# Altium integrated library National Semiconductor Amplifier.IntLib: 1665 symbols (part 33 of 44)
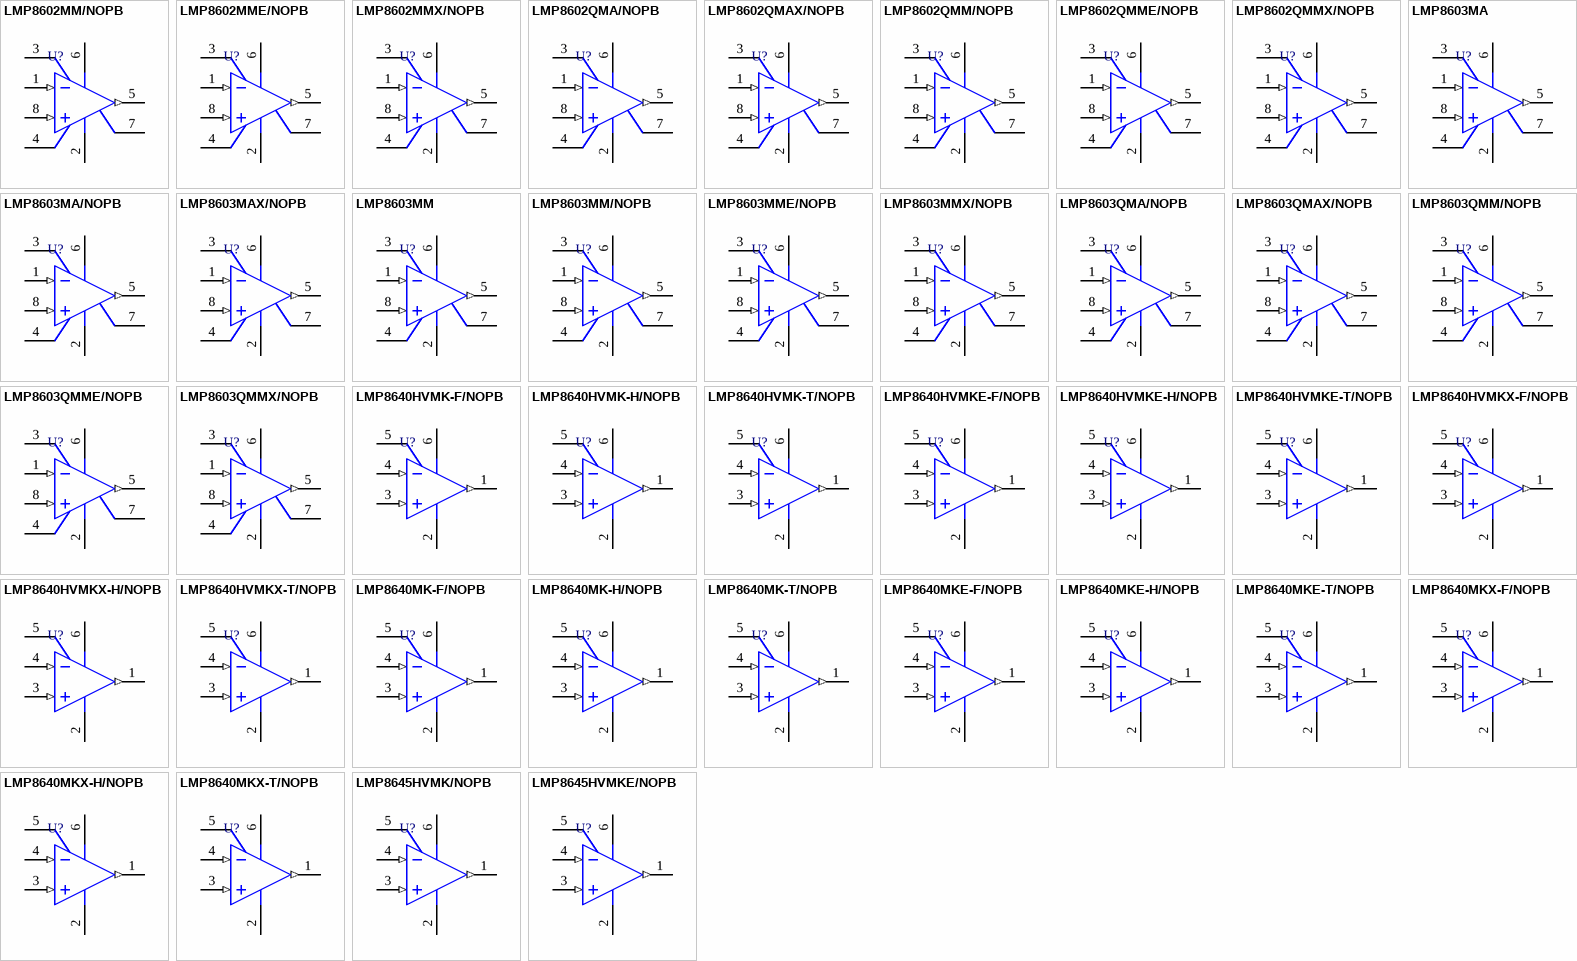
[diagram p116: symbols LMP8602MM/NOPB to LMP8645HVMKE/NOPB]

## LMP8602MMX/NOPB
designator U?
60V Common Mode, 50 x Gain, Bidirectional Precision Current Sensing Amplifier, 8-pin Mini SOIC, Pb-Free; PartNumber: LMP8602MMX/NOPB; Manufacturer: National Semiconductor; PackageTopMarking: ZXTT*AN3A; PowerWise: N; CompType: Amplifiers; High-Reliability: Y; DatasheetVersion: Apr-2011; PackageVersion: revF, Apr-2008; PackageReference: MUA08A; PackageDescription: MINI SOIC, .118 x .118 x .034in, 8 Lead, .0256in Pitch; RoHS: Y; PinCount: 8; Code_JEDEC: MO-187-AA; ComponentLink1Description: Manufacturer URL; ComponentLink1URL: http://www.national.com/; ComponentLink2Description: LMP8602 Datasheet; ComponentLink2URL: http://www.national.com/ds/LM/LMP8602.pdf; ComponentLink3Description: LMP8602 Web Page; ComponentLink3URL: http://www.national.com/pf/LM/LMP8602.html; ComponentLink4Description: MUA08A Package Page; ComponentLink4URL: http://www.national.com/packaging/folders/mua08a.html
footprint MUA08A_N (TSOP, 8-Leads, Body 3x3mm, Pitch 0.65mm, IPC Medium Density)
footprint MUA08A_L (TSOP, 8-Leads, Body 3x3mm, Pitch 0.65mm, IPC High Density)
footprint MUA08A_M (TSOP, 8-Leads, Body 3x3mm, Pitch 0.65mm, IPC Low Density)
pins: 1 IN- (in), 2 GND (power), 3 A1, 4 A2, 5 OUT (out), 6 VS (power), 7 OFS, 8 IN+ (in)

## LMP8602QMA/NOPB
designator U?
60V Common Mode, 50 x Gain, Bidirectional Precision Current Sensing Amplifier, 8 pin SOIC NARROW; PartNumber: LMP8602QMA/NOPB; Manufacturer: National Semiconductor; PackageTopMarking: NSZXTT*LMP86*02QMA; PowerWise: N; CompType: Amplifiers; High-Reliability: Y; DatasheetVersion: Apr-2011; PackageVersion: revM, May-2009; PackageReference: M08A; PackageDescription: SOIC Narrow, 4.9 x 3.9 x 1.45mm, 8 Lead, 1.27mm Pitch; RoHS: Y; PinCount: 8; Code_JEDEC: MS-012-AA; Code_IPC: SOIC127P600-8; ComponentLink1Description: Manufacturer URL; ComponentLink1URL: http://www.national.com/; ComponentLink2Description: LMP8602 Datasheet; ComponentLink2URL: http://www.national.com/ds/LM/LMP8602.pdf; ComponentLink3Description: LMP8602 Web Page; ComponentLink3URL: http://www.national.com/pf/LM/LMP8602.html; ComponentLink4Description: M08A Package Page; ComponentLink4URL: http://www.national.com/packaging/folders/m08a.html
footprint M08A_N (SOIC, 8-Leads, Body 4.9x3.9mm, Pitch 1.27mm, IPC Medium Density)
footprint M08A_L (SOIC, 8-Leads, Body 4.9x3.9mm, Pitch 1.27mm, IPC High Density)
footprint M08A_M (SOIC, 8-Leads, Body 4.9x3.9mm, Pitch 1.27mm, IPC Low Density)
pins: 1 IN- (in), 2 GND (power), 3 A1, 4 A2, 5 OUT (out), 6 VS (power), 7 OFS, 8 IN+ (in)

## LMP8602QMAX/NOPB
designator U?
60V Common Mode, 50 x Gain, Bidirectional Precision Current Sensing Amplifier, 8 pin SOIC NARROW; PartNumber: LMP8602QMAX/NOPB; Manufacturer: National Semiconductor; PackageTopMarking: NSZXTT*LMP86*02QMA; PowerWise: N; CompType: Amplifiers; High-Reliability: Y; DatasheetVersion: Apr-2011; PackageVersion: revM, May-2009; PackageReference: M08A; PackageDescription: SOIC Narrow, 4.9 x 3.9 x 1.45mm, 8 Lead, 1.27mm Pitch; RoHS: Y; PinCount: 8; Code_JEDEC: MS-012-AA; Code_IPC: SOIC127P600-8; ComponentLink1Description: Manufacturer URL; ComponentLink1URL: http://www.national.com/; ComponentLink2Description: LMP8602 Datasheet; ComponentLink2URL: http://www.national.com/ds/LM/LMP8602.pdf; ComponentLink3Description: LMP8602 Web Page; ComponentLink3URL: http://www.national.com/pf/LM/LMP8602.html; ComponentLink4Description: M08A Package Page; ComponentLink4URL: http://www.national.com/packaging/folders/m08a.html
footprint M08A_N (SOIC, 8-Leads, Body 4.9x3.9mm, Pitch 1.27mm, IPC Medium Density)
footprint M08A_L (SOIC, 8-Leads, Body 4.9x3.9mm, Pitch 1.27mm, IPC High Density)
footprint M08A_M (SOIC, 8-Leads, Body 4.9x3.9mm, Pitch 1.27mm, IPC Low Density)
pins: 1 IN- (in), 2 GND (power), 3 A1, 4 A2, 5 OUT (out), 6 VS (power), 7 OFS, 8 IN+ (in)

## LMP8602QMM/NOPB
designator U?
60V Common Mode, 50 x Gain, Bidirectional Precision Current Sensing Amplifier, AECQ 1, 8-pin Mini SOIC, 1000 Reel; PartNumber: LMP8602QMM/NOPB; Manufacturer: National Semiconductor; PackageTopMarking: ZXTT*AF7A; PowerWise: N; CompType: Amplifiers; High-Reliability: Y; DatasheetVersion: Apr-2011; PackageVersion: revF, Apr-2008; PackageReference: MUA08A; PackageDescription: MINI SOIC, .118 x .118 x .034in, 8 Lead, .0256in Pitch; RoHS: Y; PinCount: 8; Code_JEDEC: MO-187-AA; ComponentLink1Description: Manufacturer URL; ComponentLink1URL: http://www.national.com/; ComponentLink2Description: LMP8602 Datasheet; ComponentLink2URL: http://www.national.com/ds/LM/LMP8602.pdf; ComponentLink3Description: LMP8602 Web Page; ComponentLink3URL: http://www.national.com/pf/LM/LMP8602.html; ComponentLink4Description: MUA08A Package Page; ComponentLink4URL: http://www.national.com/packaging/folders/mua08a.html
footprint MUA08A_N (TSOP, 8-Leads, Body 3x3mm, Pitch 0.65mm, IPC Medium Density)
footprint MUA08A_L (TSOP, 8-Leads, Body 3x3mm, Pitch 0.65mm, IPC High Density)
footprint MUA08A_M (TSOP, 8-Leads, Body 3x3mm, Pitch 0.65mm, IPC Low Density)
pins: 1 IN- (in), 2 GND (power), 3 A1, 4 A2, 5 OUT (out), 6 VS (power), 7 OFS, 8 IN+ (in)

## LMP8602QMME/NOPB
designator U?
60V Common Mode, 50 x Gain, Bidirectional Precision Current Sensing Amplifier, AECQ 1, 8-pin Mini SOIC, 250 Reel; PartNumber: LMP8602QMME/NOPB; Manufacturer: National Semiconductor; PackageTopMarking: ZXTT*AF7A; PowerWise: N; CompType: Amplifiers; High-Reliability: Y; DatasheetVersion: Apr-2011; PackageVersion: revF, Apr-2008; PackageReference: MUA08A; PackageDescription: MINI SOIC, .118 x .118 x .034in, 8 Lead, .0256in Pitch; RoHS: Y; PinCount: 8; Code_JEDEC: MO-187-AA; ComponentLink1Description: Manufacturer URL; ComponentLink1URL: http://www.national.com/; ComponentLink2Description: LMP8602 Datasheet; ComponentLink2URL: http://www.national.com/ds/LM/LMP8602.pdf; ComponentLink3Description: LMP8602 Web Page; ComponentLink3URL: http://www.national.com/pf/LM/LMP8602.html; ComponentLink4Description: MUA08A Package Page; ComponentLink4URL: http://www.national.com/packaging/folders/mua08a.html
footprint MUA08A_N (TSOP, 8-Leads, Body 3x3mm, Pitch 0.65mm, IPC Medium Density)
footprint MUA08A_L (TSOP, 8-Leads, Body 3x3mm, Pitch 0.65mm, IPC High Density)
footprint MUA08A_M (TSOP, 8-Leads, Body 3x3mm, Pitch 0.65mm, IPC Low Density)
pins: 1 IN- (in), 2 GND (power), 3 A1, 4 A2, 5 OUT (out), 6 VS (power), 7 OFS, 8 IN+ (in)

## LMP8602QMMX/NOPB
designator U?
60V Common Mode, 50 x Gain, Bidirectional Precision Current Sensing Amplifier, AECQ 1, 8-pin Mini SOIC, 3500 Reel; PartNumber: LMP8602QMMX/NOPB; Manufacturer: National Semiconductor; PackageTopMarking: ZXTT*AF7A; PowerWise: N; CompType: Amplifiers; High-Reliability: Y; DatasheetVersion: Apr-2011; PackageVersion: revF, Apr-2008; PackageReference: MUA08A; PackageDescription: MINI SOIC, .118 x .118 x .034in, 8 Lead, .0256in Pitch; RoHS: Y; PinCount: 8; Code_JEDEC: MO-187-AA; ComponentLink1Description: Manufacturer URL; ComponentLink1URL: http://www.national.com/; ComponentLink2Description: LMP8602 Datasheet; ComponentLink2URL: http://www.national.com/ds/LM/LMP8602.pdf; ComponentLink3Description: LMP8602 Web Page; ComponentLink3URL: http://www.national.com/pf/LM/LMP8602.html; ComponentLink4Description: MUA08A Package Page; ComponentLink4URL: http://www.national.com/packaging/folders/mua08a.html
footprint MUA08A_N (TSOP, 8-Leads, Body 3x3mm, Pitch 0.65mm, IPC Medium Density)
footprint MUA08A_L (TSOP, 8-Leads, Body 3x3mm, Pitch 0.65mm, IPC High Density)
footprint MUA08A_M (TSOP, 8-Leads, Body 3x3mm, Pitch 0.65mm, IPC Low Density)
pins: 1 IN- (in), 2 GND (power), 3 A1, 4 A2, 5 OUT (out), 6 VS (power), 7 OFS, 8 IN+ (in)

## LMP8603MA
designator U?
60V Common Mode, 100 x Gain, Bidirectional Precision Current Sensing Amplifier, 8-pin Narrow SOIC; PartNumber: LMP8603MA; Manufacturer: National Semiconductor; PackageTopMarking: NSZXTT*LMP86*03MA; PowerWise: N; CompType: Amplifiers; High-Reliability: Y; DatasheetVersion: Mar-2010; PackageVersion: revM, May-2009; PackageReference: M08A; PackageDescription: SOIC Narrow, 4.9 x 3.9 x 1.45mm, 8 Lead, 1.27mm Pitch; RoHS: Y; PinCount: 8; Code_JEDEC: MS-012-AA; Code_IPC: SOIC127P600-8; ComponentLink1Description: Manufacturer URL; ComponentLink1URL: http://www.national.com/; ComponentLink2Description: LMP8602 Datasheet; ComponentLink2URL: http://www.national.com/ds/LM/LMP8602.pdf; ComponentLink3Description: LMP8603 Web Page; ComponentLink3URL: http://www.national.com/pf/LM/LMP8603.html; ComponentLink4Description: M08A Package Page; ComponentLink4URL: http://www.national.com/packaging/folders/m08a.html
footprint M08A_N (SOIC, 8-Leads, Body 4.9x3.9mm, Pitch 1.27mm, IPC Medium Density)
footprint M08A_L (SOIC, 8-Leads, Body 4.9x3.9mm, Pitch 1.27mm, IPC High Density)
footprint M08A_M (SOIC, 8-Leads, Body 4.9x3.9mm, Pitch 1.27mm, IPC Low Density)
pins: 1 IN- (in), 2 GND (power), 3 A1, 4 A2, 5 OUT (out), 6 VS (power), 7 OFS, 8 IN+ (in)

## LMP8603MA/NOPB
designator U?
60V Common Mode, 100 x Gain, Bidirectional Precision Current Sensing Amplifier, 8-pin Narrow SOIC, Pb-Free; PartNumber: LMP8603MA/NOPB; Manufacturer: National Semiconductor; PackageTopMarking: NSZXTT*LMP86*03MA; PowerWise: N; CompType: Amplifiers; High-Reliability: Y; DatasheetVersion: Mar-2010; PackageVersion: revM, May-2009; PackageReference: M08A; PackageDescription: SOIC Narrow, 4.9 x 3.9 x 1.45mm, 8 Lead, 1.27mm Pitch; RoHS: Y; PinCount: 8; Code_JEDEC: MS-012-AA; Code_IPC: SOIC127P600-8; ComponentLink1Description: Manufacturer URL; ComponentLink1URL: http://www.national.com/; ComponentLink2Description: LMP8603 Datasheet; ComponentLink2URL: http://www.national.com/ds/LM/LMP8603.pdf; ComponentLink3Description: LMP8603 Web Page; ComponentLink3URL: http://www.national.com/pf/LM/LMP8603.html; ComponentLink4Description: M08A Package Page; ComponentLink4URL: http://www.national.com/packaging/folders/m08a.html
footprint M08A_N (SOIC, 8-Leads, Body 4.9x3.9mm, Pitch 1.27mm, IPC Medium Density)
footprint M08A_L (SOIC, 8-Leads, Body 4.9x3.9mm, Pitch 1.27mm, IPC High Density)
footprint M08A_M (SOIC, 8-Leads, Body 4.9x3.9mm, Pitch 1.27mm, IPC Low Density)
pins: 1 IN- (in), 2 GND (power), 3 A1, 4 A2, 5 OUT (out), 6 VS (power), 7 OFS, 8 IN+ (in)

## LMP8603MAX/NOPB
designator U?
60V Common Mode, 100 x Gain, Bidirectional Precision Current Sensing Amplifier, 8-pin Narrow SOIC, Pb-Free; PartNumber: LMP8603MAX/NOPB; Manufacturer: National Semiconductor; PackageTopMarking: NSZXTT*LMP86*03MA; PowerWise: N; CompType: Amplifiers; High-Reliability: Y; DatasheetVersion: Mar-2010; PackageVersion: revM, May-2009; PackageReference: M08A; PackageDescription: SOIC Narrow, 4.9 x 3.9 x 1.45mm, 8 Lead, 1.27mm Pitch; RoHS: Y; PinCount: 8; Code_JEDEC: MS-012-AA; Code_IPC: SOIC127P600-8; ComponentLink1Description: Manufacturer URL; ComponentLink1URL: http://www.national.com/; ComponentLink2Description: LMP8603 Datasheet; ComponentLink2URL: http://www.national.com/ds/LM/LMP8603.pdf; ComponentLink3Description: LMP8603 Web Page; ComponentLink3URL: http://www.national.com/pf/LM/LMP8603.html; ComponentLink4Description: M08A Package Page; ComponentLink4URL: http://www.national.com/packaging/folders/m08a.html
footprint M08A_N (SOIC, 8-Leads, Body 4.9x3.9mm, Pitch 1.27mm, IPC Medium Density)
footprint M08A_L (SOIC, 8-Leads, Body 4.9x3.9mm, Pitch 1.27mm, IPC High Density)
footprint M08A_M (SOIC, 8-Leads, Body 4.9x3.9mm, Pitch 1.27mm, IPC Low Density)
pins: 1 IN- (in), 2 GND (power), 3 A1, 4 A2, 5 OUT (out), 6 VS (power), 7 OFS, 8 IN+ (in)

## LMP8603MM
designator U?
60V Common Mode, 100 x Gain, Bidirectional Precision Current Sensing Amplifier, 8-pin Mini SOIC; PartNumber: LMP8603MM; Manufacturer: National Semiconductor; PackageTopMarking: ZXTT*AP3A; PowerWise: N; CompType: Amplifiers; High-Reliability: Y; DatasheetVersion: Mar-2010; PackageVersion: revF, Apr-2008; PackageReference: MUA08A; PackageDescription: MINI SOIC, .118 x .118 x .034in, 8 Lead, .0256in Pitch; RoHS: Y; PinCount: 8; Code_JEDEC: MO-187-AA; ComponentLink1Description: Manufacturer URL; ComponentLink1URL: http://www.national.com/; ComponentLink2Description: LMP8602 Datasheet; ComponentLink2URL: http://www.national.com/ds/LM/LMP8602.pdf; ComponentLink3Description: LMP8603 Web Page; ComponentLink3URL: http://www.national.com/pf/LM/LMP8603.html; ComponentLink4Description: MUA08A Package Page; ComponentLink4URL: http://www.national.com/packaging/folders/mua08a.html
footprint MUA08A_N (TSOP, 8-Leads, Body 3x3mm, Pitch 0.65mm, IPC Medium Density)
footprint MUA08A_L (TSOP, 8-Leads, Body 3x3mm, Pitch 0.65mm, IPC High Density)
footprint MUA08A_M (TSOP, 8-Leads, Body 3x3mm, Pitch 0.65mm, IPC Low Density)
pins: 1 IN- (in), 2 GND (power), 3 A1, 4 A2, 5 OUT (out), 6 VS (power), 7 OFS, 8 IN+ (in)

## LMP8603MM/NOPB
designator U?
60V Common Mode, 100 x Gain, Bidirectional Precision Current Sensing Amplifier, 8-pin Mini SOIC, Pb-Free; PartNumber: LMP8603MM/NOPB; Manufacturer: National Semiconductor; PackageTopMarking: ZXTT*AP3A; PowerWise: N; CompType: Amplifiers; High-Reliability: Y; DatasheetVersion: Mar-2010; PackageVersion: revF, Apr-2008; PackageReference: MUA08A; PackageDescription: MINI SOIC, .118 x .118 x .034in, 8 Lead, .0256in Pitch; RoHS: Y; PinCount: 8; Code_JEDEC: MO-187-AA; ComponentLink1Description: Manufacturer URL; ComponentLink1URL: http://www.national.com/; ComponentLink2Description: LMP8603 Datasheet; ComponentLink2URL: http://www.national.com/ds/LM/LMP8603.pdf; ComponentLink3Description: LMP8603 Web Page; ComponentLink3URL: http://www.national.com/pf/LM/LMP8603.html; ComponentLink4Description: MUA08A Package Page; ComponentLink4URL: http://www.national.com/packaging/folders/mua08a.html
footprint MUA08A_N (TSOP, 8-Leads, Body 3x3mm, Pitch 0.65mm, IPC Medium Density)
footprint MUA08A_L (TSOP, 8-Leads, Body 3x3mm, Pitch 0.65mm, IPC High Density)
footprint MUA08A_M (TSOP, 8-Leads, Body 3x3mm, Pitch 0.65mm, IPC Low Density)
pins: 1 IN- (in), 2 GND (power), 3 A1, 4 A2, 5 OUT (out), 6 VS (power), 7 OFS, 8 IN+ (in)

## LMP8603MME/NOPB
designator U?
60V Common Mode, 100 x Gain, Bidirectional Precision Current Sensing Amplifier, 8-pin Mini SOIC, Pb-Free; PartNumber: LMP8603MME/NOPB; Manufacturer: National Semiconductor; PackageTopMarking: ZXTT*AP3A; PowerWise: N; CompType: Amplifiers; High-Reliability: Y; DatasheetVersion: Mar-2010; PackageVersion: revF, Apr-2008; PackageReference: MUA08A; PackageDescription: MINI SOIC, .118 x .118 x .034in, 8 Lead, .0256in Pitch; RoHS: Y; PinCount: 8; Code_JEDEC: MO-187-AA; ComponentLink1Description: Manufacturer URL; ComponentLink1URL: http://www.national.com/; ComponentLink2Description: LMP8603 Datasheet; ComponentLink2URL: http://www.national.com/ds/LM/LMP8603.pdf; ComponentLink3Description: LMP8603 Web Page; ComponentLink3URL: http://www.national.com/pf/LM/LMP8603.html; ComponentLink4Description: MUA08A Package Page; ComponentLink4URL: http://www.national.com/packaging/folders/mua08a.html
footprint MUA08A_N (TSOP, 8-Leads, Body 3x3mm, Pitch 0.65mm, IPC Medium Density)
footprint MUA08A_L (TSOP, 8-Leads, Body 3x3mm, Pitch 0.65mm, IPC High Density)
footprint MUA08A_M (TSOP, 8-Leads, Body 3x3mm, Pitch 0.65mm, IPC Low Density)
pins: 1 IN- (in), 2 GND (power), 3 A1, 4 A2, 5 OUT (out), 6 VS (power), 7 OFS, 8 IN+ (in)

## LMP8603MMX/NOPB
designator U?
60V Common Mode, 100 x Gain, Bidirectional Precision Current Sensing Amplifier, 8-pin Mini SOIC, Pb-Free; PartNumber: LMP8603MMX/NOPB; Manufacturer: National Semiconductor; PackageTopMarking: ZXTT*AP3A; PowerWise: N; CompType: Amplifiers; High-Reliability: Y; DatasheetVersion: Mar-2010; PackageVersion: revF, Apr-2008; PackageReference: MUA08A; PackageDescription: MINI SOIC, .118 x .118 x .034in, 8 Lead, .0256in Pitch; RoHS: Y; PinCount: 8; Code_JEDEC: MO-187-AA; ComponentLink1Description: Manufacturer URL; ComponentLink1URL: http://www.national.com/; ComponentLink2Description: LMP8603 Datasheet; ComponentLink2URL: http://www.national.com/ds/LM/LMP8603.pdf; ComponentLink3Description: LMP8603 Web Page; ComponentLink3URL: http://www.national.com/pf/LM/LMP8603.html; ComponentLink4Description: MUA08A Package Page; ComponentLink4URL: http://www.national.com/packaging/folders/mua08a.html
footprint MUA08A_N (TSOP, 8-Leads, Body 3x3mm, Pitch 0.65mm, IPC Medium Density)
footprint MUA08A_L (TSOP, 8-Leads, Body 3x3mm, Pitch 0.65mm, IPC High Density)
footprint MUA08A_M (TSOP, 8-Leads, Body 3x3mm, Pitch 0.65mm, IPC Low Density)
pins: 1 IN- (in), 2 GND (power), 3 A1, 4 A2, 5 OUT (out), 6 VS (power), 7 OFS, 8 IN+ (in)

## LMP8603QMA/NOPB
designator U?
60V Common Mode, 100 x Gain, Bidirectional Precision Current Sensing Amplifier, 8 pin SOIC NARROW; PartNumber: LMP8603QMA/NOPB; Manufacturer: National Semiconductor; PackageTopMarking: NSZXTT*LMP86*03QMA; PowerWise: N; CompType: Amplifiers; High-Reliability: Y; DatasheetVersion: Mar-2010; PackageVersion: revM, May-2009; PackageReference: M08A; PackageDescription: SOIC Narrow, 4.9 x 3.9 x 1.45mm, 8 Lead, 1.27mm Pitch; RoHS: Y; PinCount: 8; Code_JEDEC: MS-012-AA; Code_IPC: SOIC127P600-8; ComponentLink1Description: Manufacturer URL; ComponentLink1URL: http://www.national.com/; ComponentLink2Description: LMP8603 Datasheet; ComponentLink2URL: http://www.national.com/ds/LM/LMP8603.pdf; ComponentLink3Description: LMP8603 Web Page; ComponentLink3URL: http://www.national.com/pf/LM/LMP8603.html; ComponentLink4Description: M08A Package Page; ComponentLink4URL: http://www.national.com/packaging/folders/m08a.html
footprint M08A_N (SOIC, 8-Leads, Body 4.9x3.9mm, Pitch 1.27mm, IPC Medium Density)
footprint M08A_L (SOIC, 8-Leads, Body 4.9x3.9mm, Pitch 1.27mm, IPC High Density)
footprint M08A_M (SOIC, 8-Leads, Body 4.9x3.9mm, Pitch 1.27mm, IPC Low Density)
pins: 1 IN- (in), 2 GND (power), 3 A1, 4 A2, 5 OUT (out), 6 VS (power), 7 OFS, 8 IN+ (in)

## LMP8603QMAX/NOPB
designator U?
60V Common Mode, 100 x Gain, Bidirectional Precision Current Sensing Amplifier, 8 pin SOIC NARROW; PartNumber: LMP8603QMAX/NOPB; Manufacturer: National Semiconductor; PackageTopMarking: NSZXTT*LMP86*03QMA; PowerWise: N; CompType: Amplifiers; High-Reliability: Y; DatasheetVersion: Mar-2010; PackageVersion: revM, May-2009; PackageReference: M08A; PackageDescription: SOIC Narrow, 4.9 x 3.9 x 1.45mm, 8 Lead, 1.27mm Pitch; RoHS: Y; PinCount: 8; Code_JEDEC: MS-012-AA; Code_IPC: SOIC127P600-8; ComponentLink1Description: Manufacturer URL; ComponentLink1URL: http://www.national.com/; ComponentLink2Description: LMP8603 Datasheet; ComponentLink2URL: http://www.national.com/ds/LM/LMP8603.pdf; ComponentLink3Description: LMP8603 Web Page; ComponentLink3URL: http://www.national.com/pf/LM/LMP8603.html; ComponentLink4Description: M08A Package Page; ComponentLink4URL: http://www.national.com/packaging/folders/m08a.html
footprint M08A_N (SOIC, 8-Leads, Body 4.9x3.9mm, Pitch 1.27mm, IPC Medium Density)
footprint M08A_L (SOIC, 8-Leads, Body 4.9x3.9mm, Pitch 1.27mm, IPC High Density)
footprint M08A_M (SOIC, 8-Leads, Body 4.9x3.9mm, Pitch 1.27mm, IPC Low Density)
pins: 1 IN- (in), 2 GND (power), 3 A1, 4 A2, 5 OUT (out), 6 VS (power), 7 OFS, 8 IN+ (in)

## LMP8603QMM/NOPB
designator U?
60V Common Mode, 100 x Gain, Bidirectional Precision Current Sensing Amplifier, 8 pin Mini SOIC, Pb-Free; PartNumber: LMP8603QMM/NOPB; Manufacturer: National Semiconductor; PackageTopMarking: ZXTT*AH7A; PowerWise: N; CompType: Amplifiers; High-Reliability: Y; DatasheetVersion: Mar-2010; PackageVersion: revF, Apr-2008; PackageReference: MUA08A; PackageDescription: MINI SOIC, .118 x .118 x .034in, 8 Lead, .0256in Pitch; RoHS: Y; PinCount: 8; Code_JEDEC: MO-187-AA; ComponentLink1Description: Manufacturer URL; ComponentLink1URL: http://www.national.com/; ComponentLink2Description: LMP8603 Datasheet; ComponentLink2URL: http://www.national.com/ds/LM/LMP8603.pdf; ComponentLink3Description: LMP8603 Web Page; ComponentLink3URL: http://www.national.com/pf/LM/LMP8603.html; ComponentLink4Description: MUA08A Package Page; ComponentLink4URL: http://www.national.com/packaging/folders/mua08a.html
footprint MUA08A_N (TSOP, 8-Leads, Body 3x3mm, Pitch 0.65mm, IPC Medium Density)
footprint MUA08A_L (TSOP, 8-Leads, Body 3x3mm, Pitch 0.65mm, IPC High Density)
footprint MUA08A_M (TSOP, 8-Leads, Body 3x3mm, Pitch 0.65mm, IPC Low Density)
pins: 1 IN- (in), 2 GND (power), 3 A1, 4 A2, 5 OUT (out), 6 VS (power), 7 OFS, 8 IN+ (in)

## LMP8603QMME/NOPB
designator U?
60V Common Mode, 100 x Gain, Bidirectional Precision Current Sensing Amplifier, 8 pin Mini SOIC, Pb-Free; PartNumber: LMP8603QMME/NOPB; Manufacturer: National Semiconductor; PackageTopMarking: ZXTT*AH7A; PowerWise: N; CompType: Amplifiers; High-Reliability: Y; DatasheetVersion: Mar-2010; PackageVersion: revF, Apr-2008; PackageReference: MUA08A; PackageDescription: MINI SOIC, .118 x .118 x .034in, 8 Lead, .0256in Pitch; RoHS: Y; PinCount: 8; Code_JEDEC: MO-187-AA; ComponentLink1Description: Manufacturer URL; ComponentLink1URL: http://www.national.com/; ComponentLink2Description: LMP8603 Datasheet; ComponentLink2URL: http://www.national.com/ds/LM/LMP8603.pdf; ComponentLink3Description: LMP8603 Web Page; ComponentLink3URL: http://www.national.com/pf/LM/LMP8603.html; ComponentLink4Description: MUA08A Package Page; ComponentLink4URL: http://www.national.com/packaging/folders/mua08a.html
footprint MUA08A_N (TSOP, 8-Leads, Body 3x3mm, Pitch 0.65mm, IPC Medium Density)
footprint MUA08A_L (TSOP, 8-Leads, Body 3x3mm, Pitch 0.65mm, IPC High Density)
footprint MUA08A_M (TSOP, 8-Leads, Body 3x3mm, Pitch 0.65mm, IPC Low Density)
pins: 1 IN- (in), 2 GND (power), 3 A1, 4 A2, 5 OUT (out), 6 VS (power), 7 OFS, 8 IN+ (in)

## LMP8603QMMX/NOPB
designator U?
60V Common Mode, 100 x Gain, Bidirectional Precision Current Sensing Amplifier, 8 pin Mini SOIC, Pb-Free; PartNumber: LMP8603QMMX/NOPB; Manufacturer: National Semiconductor; PackageTopMarking: ZXTT*AH7A; PowerWise: N; CompType: Amplifiers; High-Reliability: Y; DatasheetVersion: Mar-2010; PackageVersion: revF, Apr-2008; PackageReference: MUA08A; PackageDescription: MINI SOIC, .118 x .118 x .034in, 8 Lead, .0256in Pitch; RoHS: Y; PinCount: 8; Code_JEDEC: MO-187-AA; ComponentLink1Description: Manufacturer URL; ComponentLink1URL: http://www.national.com/; ComponentLink2Description: LMP8603 Datasheet; ComponentLink2URL: http://www.national.com/ds/LM/LMP8603.pdf; ComponentLink3Description: LMP8603 Web Page; ComponentLink3URL: http://www.national.com/pf/LM/LMP8603.html; ComponentLink4Description: MUA08A Package Page; ComponentLink4URL: http://www.national.com/packaging/folders/mua08a.html
footprint MUA08A_N (TSOP, 8-Leads, Body 3x3mm, Pitch 0.65mm, IPC Medium Density)
footprint MUA08A_L (TSOP, 8-Leads, Body 3x3mm, Pitch 0.65mm, IPC High Density)
footprint MUA08A_M (TSOP, 8-Leads, Body 3x3mm, Pitch 0.65mm, IPC Low Density)
pins: 1 IN- (in), 2 GND (power), 3 A1, 4 A2, 5 OUT (out), 6 VS (power), 7 OFS, 8 IN+ (in)

## LMP8640HVMK-F/NOPB
designator U?
Precision High Voltage Current Sense Amplifier, 6 pin TSOT, 1000 Reel; PartNumber: LMP8640HVMK-F/NOPB; Manufacturer: National Semiconductor; PackageTopMarking: AD6A*XTT; PowerWise: N; CompType: Amplifiers; High-Reliability: Y; DatasheetVersion: Sep-2010; PackageVersion: revE, Nov-2008; PackageReference: MK06A; PackageDescription: Molded TSOT, 2.97 x 1.65 x 0.87mm Body, 6 Lead, 0.95mm Pitch; RoHS: Y; PinCount: 6; Code_JEDEC: MO-193-AA; Code_IPC: SOT26A-6; ComponentLink1Description: Manufacturer URL; ComponentLink1URL: http://www.national.com/; ComponentLink2Description: LMP8640HV Datasheet; ComponentLink2URL: http://www.national.com/ds/LM/LMP8640HV.pdf; ComponentLink3Description: LMP8640HV Web Page; ComponentLink3URL: http://www.national.com/pf/LM/LMP8640HV.html; ComponentLink4Description: MK06A Package Page; ComponentLink4URL: http://www.national.com/packaging/folders/mk06a.html
footprint MK06A_N (SOT23, 6-Leads, Body 3.0x1.7mm, Pitch 0.95mm, Lead Span 2.9mm, IPC Medium Density)
footprint MK06A_L (SOT23, 6-Leads, Body 3.0x1.7mm, Pitch 0.95mm, Lead Span 2.9mm, IPC High Density)
footprint MK06A_M (SOT23, 6-Leads, Body 3.0x1.7mm, Pitch 0.95mm, Lead Span 2.9mm, IPC Low Density)
pins: 1 VOUT (out), 2 V- (power), 3 +IN (in), 4 -IN (in), 5 NC, 6 V+ (power)

## LMP8640HVMK-H/NOPB
designator U?
Precision High Voltage Current Sense Amplifier, 6 pin TSOT, 1000 Reel; PartNumber: LMP8640HVMK-H/NOPB; Manufacturer: National Semiconductor; PackageTopMarking: AF6A*XTT; PowerWise: N; CompType: Amplifiers; High-Reliability: Y; DatasheetVersion: Sep-2010; PackageVersion: revE, Nov-2008; PackageReference: MK06A; PackageDescription: Molded TSOT, 2.97 x 1.65 x 0.87mm Body, 6 Lead, 0.95mm Pitch; RoHS: Y; PinCount: 6; Code_JEDEC: MO-193-AA; Code_IPC: SOT26A-6; ComponentLink1Description: Manufacturer URL; ComponentLink1URL: http://www.national.com/; ComponentLink2Description: LMP8640HV Datasheet; ComponentLink2URL: http://www.national.com/ds/LM/LMP8640HV.pdf; ComponentLink3Description: LMP8640HV Web Page; ComponentLink3URL: http://www.national.com/pf/LM/LMP8640HV.html; ComponentLink4Description: MK06A Package Page; ComponentLink4URL: http://www.national.com/packaging/folders/mk06a.html
footprint MK06A_N (SOT23, 6-Leads, Body 3.0x1.7mm, Pitch 0.95mm, Lead Span 2.9mm, IPC Medium Density)
footprint MK06A_L (SOT23, 6-Leads, Body 3.0x1.7mm, Pitch 0.95mm, Lead Span 2.9mm, IPC High Density)
footprint MK06A_M (SOT23, 6-Leads, Body 3.0x1.7mm, Pitch 0.95mm, Lead Span 2.9mm, IPC Low Density)
pins: 1 VOUT (out), 2 V- (power), 3 +IN (in), 4 -IN (in), 5 NC, 6 V+ (power)

## LMP8640HVMK-T/NOPB
designator U?
Precision High Voltage Current Sense Amplifier, 6 pin TSOT, 1000 Reel; PartNumber: LMP8640HVMK-T/NOPB; Manufacturer: National Semiconductor; PackageTopMarking: AB6A*XTT; PowerWise: N; CompType: Amplifiers; High-Reliability: Y; DatasheetVersion: Sep-2010; PackageVersion: revE, Nov-2008; PackageReference: MK06A; PackageDescription: Molded TSOT, 2.97 x 1.65 x 0.87mm Body, 6 Lead, 0.95mm Pitch; RoHS: Y; PinCount: 6; Code_JEDEC: MO-193-AA; Code_IPC: SOT26A-6; ComponentLink1Description: Manufacturer URL; ComponentLink1URL: http://www.national.com/; ComponentLink2Description: LMP8640HV Datasheet; ComponentLink2URL: http://www.national.com/ds/LM/LMP8640HV.pdf; ComponentLink3Description: LMP8640HV Web Page; ComponentLink3URL: http://www.national.com/pf/LM/LMP8640HV.html; ComponentLink4Description: MK06A Package Page; ComponentLink4URL: http://www.national.com/packaging/folders/mk06a.html
footprint MK06A_N (SOT23, 6-Leads, Body 3.0x1.7mm, Pitch 0.95mm, Lead Span 2.9mm, IPC Medium Density)
footprint MK06A_L (SOT23, 6-Leads, Body 3.0x1.7mm, Pitch 0.95mm, Lead Span 2.9mm, IPC High Density)
footprint MK06A_M (SOT23, 6-Leads, Body 3.0x1.7mm, Pitch 0.95mm, Lead Span 2.9mm, IPC Low Density)
pins: 1 VOUT (out), 2 V- (power), 3 +IN (in), 4 -IN (in), 5 NC, 6 V+ (power)

## LMP8640HVMKE-F/NOPB
designator U?
Precision High Voltage Current Sense Amplifier, 6 pin TSOT, 250 Reel; PartNumber: LMP8640HVMKE-F/NOPB; Manufacturer: National Semiconductor; PackageTopMarking: AD6A*XTT; PowerWise: N; CompType: Amplifiers; High-Reliability: Y; DatasheetVersion: Sep-2010; PackageVersion: revE, Nov-2008; PackageReference: MK06A; PackageDescription: Molded TSOT, 2.97 x 1.65 x 0.87mm Body, 6 Lead, 0.95mm Pitch; RoHS: Y; PinCount: 6; Code_JEDEC: MO-193-AA; Code_IPC: SOT26A-6; ComponentLink1Description: Manufacturer URL; ComponentLink1URL: http://www.national.com/; ComponentLink2Description: LMP8640HV Datasheet; ComponentLink2URL: http://www.national.com/ds/LM/LMP8640HV.pdf; ComponentLink3Description: LMP8640HV Web Page; ComponentLink3URL: http://www.national.com/pf/LM/LMP8640HV.html; ComponentLink4Description: MK06A Package Page; ComponentLink4URL: http://www.national.com/packaging/folders/mk06a.html
footprint MK06A_N (SOT23, 6-Leads, Body 3.0x1.7mm, Pitch 0.95mm, Lead Span 2.9mm, IPC Medium Density)
footprint MK06A_L (SOT23, 6-Leads, Body 3.0x1.7mm, Pitch 0.95mm, Lead Span 2.9mm, IPC High Density)
footprint MK06A_M (SOT23, 6-Leads, Body 3.0x1.7mm, Pitch 0.95mm, Lead Span 2.9mm, IPC Low Density)
pins: 1 VOUT (out), 2 V- (power), 3 +IN (in), 4 -IN (in), 5 NC, 6 V+ (power)

## LMP8640HVMKE-H/NOPB
designator U?
Precision High Voltage Current Sense Amplifier, 6 pin TSOT, 250 Reel; PartNumber: LMP8640HVMKE-H/NOPB; Manufacturer: National Semiconductor; PackageTopMarking: AF6A*XTT; PowerWise: N; CompType: Amplifiers; High-Reliability: Y; DatasheetVersion: Sep-2010; PackageVersion: revE, Nov-2008; PackageReference: MK06A; PackageDescription: Molded TSOT, 2.97 x 1.65 x 0.87mm Body, 6 Lead, 0.95mm Pitch; RoHS: Y; PinCount: 6; Code_JEDEC: MO-193-AA; Code_IPC: SOT26A-6; ComponentLink1Description: Manufacturer URL; ComponentLink1URL: http://www.national.com/; ComponentLink2Description: LMP8640HV Datasheet; ComponentLink2URL: http://www.national.com/ds/LM/LMP8640HV.pdf; ComponentLink3Description: LMP8640HV Web Page; ComponentLink3URL: http://www.national.com/pf/LM/LMP8640HV.html; ComponentLink4Description: MK06A Package Page; ComponentLink4URL: http://www.national.com/packaging/folders/mk06a.html
footprint MK06A_N (SOT23, 6-Leads, Body 3.0x1.7mm, Pitch 0.95mm, Lead Span 2.9mm, IPC Medium Density)
footprint MK06A_L (SOT23, 6-Leads, Body 3.0x1.7mm, Pitch 0.95mm, Lead Span 2.9mm, IPC High Density)
footprint MK06A_M (SOT23, 6-Leads, Body 3.0x1.7mm, Pitch 0.95mm, Lead Span 2.9mm, IPC Low Density)
pins: 1 VOUT (out), 2 V- (power), 3 +IN (in), 4 -IN (in), 5 NC, 6 V+ (power)

## LMP8640HVMKE-T/NOPB
designator U?
Precision High Voltage Current Sense Amplifier, 6 pin TSOT, 250 Reel; PartNumber: LMP8640HVMKE-T/NOPB; Manufacturer: National Semiconductor; PackageTopMarking: AB6A*XTT; PowerWise: N; CompType: Amplifiers; High-Reliability: Y; DatasheetVersion: Sep-2010; PackageVersion: revE, Nov-2008; PackageReference: MK06A; PackageDescription: Molded TSOT, 2.97 x 1.65 x 0.87mm Body, 6 Lead, 0.95mm Pitch; RoHS: Y; PinCount: 6; Code_JEDEC: MO-193-AA; Code_IPC: SOT26A-6; ComponentLink1Description: Manufacturer URL; ComponentLink1URL: http://www.national.com/; ComponentLink2Description: LMP8640HV Datasheet; ComponentLink2URL: http://www.national.com/ds/LM/LMP8640HV.pdf; ComponentLink3Description: LMP8640HV Web Page; ComponentLink3URL: http://www.national.com/pf/LM/LMP8640HV.html; ComponentLink4Description: MK06A Package Page; ComponentLink4URL: http://www.national.com/packaging/folders/mk06a.html
footprint MK06A_N (SOT23, 6-Leads, Body 3.0x1.7mm, Pitch 0.95mm, Lead Span 2.9mm, IPC Medium Density)
footprint MK06A_L (SOT23, 6-Leads, Body 3.0x1.7mm, Pitch 0.95mm, Lead Span 2.9mm, IPC High Density)
footprint MK06A_M (SOT23, 6-Leads, Body 3.0x1.7mm, Pitch 0.95mm, Lead Span 2.9mm, IPC Low Density)
pins: 1 VOUT (out), 2 V- (power), 3 +IN (in), 4 -IN (in), 5 NC, 6 V+ (power)

## LMP8640HVMKX-F/NOPB
designator U?
Precision High Voltage Current Sense Amplifier, 6 pin TSOT, 3000 Reel; PartNumber: LMP8640HVMKX-F/NOPB; Manufacturer: National Semiconductor; PackageTopMarking: AD6A*XTT; PowerWise: N; CompType: Amplifiers; High-Reliability: Y; DatasheetVersion: Sep-2010; PackageVersion: revE, Nov-2008; PackageReference: MK06A; PackageDescription: Molded TSOT, 2.97 x 1.65 x 0.87mm Body, 6 Lead, 0.95mm Pitch; RoHS: Y; PinCount: 6; Code_JEDEC: MO-193-AA; Code_IPC: SOT26A-6; ComponentLink1Description: Manufacturer URL; ComponentLink1URL: http://www.national.com/; ComponentLink2Description: LMP8640HV Datasheet; ComponentLink2URL: http://www.national.com/ds/LM/LMP8640HV.pdf; ComponentLink3Description: LMP8640HV Web Page; ComponentLink3URL: http://www.national.com/pf/LM/LMP8640HV.html; ComponentLink4Description: MK06A Package Page; ComponentLink4URL: http://www.national.com/packaging/folders/mk06a.html
footprint MK06A_N (SOT23, 6-Leads, Body 3.0x1.7mm, Pitch 0.95mm, Lead Span 2.9mm, IPC Medium Density)
footprint MK06A_L (SOT23, 6-Leads, Body 3.0x1.7mm, Pitch 0.95mm, Lead Span 2.9mm, IPC High Density)
footprint MK06A_M (SOT23, 6-Leads, Body 3.0x1.7mm, Pitch 0.95mm, Lead Span 2.9mm, IPC Low Density)
pins: 1 VOUT (out), 2 V- (power), 3 +IN (in), 4 -IN (in), 5 NC, 6 V+ (power)

## LMP8640HVMKX-H/NOPB
designator U?
Precision High Voltage Current Sense Amplifier, 6 pin TSOT, 3000 Reel; PartNumber: LMP8640HVMKX-H/NOPB; Manufacturer: National Semiconductor; PackageTopMarking: AF6A*XTT; PowerWise: N; CompType: Amplifiers; High-Reliability: Y; DatasheetVersion: Sep-2010; PackageVersion: revE, Nov-2008; PackageReference: MK06A; PackageDescription: Molded TSOT, 2.97 x 1.65 x 0.87mm Body, 6 Lead, 0.95mm Pitch; RoHS: Y; PinCount: 6; Code_JEDEC: MO-193-AA; Code_IPC: SOT26A-6; ComponentLink1Description: Manufacturer URL; ComponentLink1URL: http://www.national.com/; ComponentLink2Description: LMP8640HV Datasheet; ComponentLink2URL: http://www.national.com/ds/LM/LMP8640HV.pdf; ComponentLink3Description: LMP8640HV Web Page; ComponentLink3URL: http://www.national.com/pf/LM/LMP8640HV.html; ComponentLink4Description: MK06A Package Page; ComponentLink4URL: http://www.national.com/packaging/folders/mk06a.html
footprint MK06A_N (SOT23, 6-Leads, Body 3.0x1.7mm, Pitch 0.95mm, Lead Span 2.9mm, IPC Medium Density)
footprint MK06A_L (SOT23, 6-Leads, Body 3.0x1.7mm, Pitch 0.95mm, Lead Span 2.9mm, IPC High Density)
footprint MK06A_M (SOT23, 6-Leads, Body 3.0x1.7mm, Pitch 0.95mm, Lead Span 2.9mm, IPC Low Density)
pins: 1 VOUT (out), 2 V- (power), 3 +IN (in), 4 -IN (in), 5 NC, 6 V+ (power)

## LMP8640HVMKX-T/NOPB
designator U?
Precision High Voltage Current Sense Amplifier, 6 pin TSOT; PartNumber: LMP8640HVMKX-T/NOPB; Manufacturer: National Semiconductor; PackageTopMarking: AB6A*XTT; PowerWise: N; CompType: Amplifiers; High-Reliability: Y; DatasheetVersion: Sep-2010; PackageVersion: revE, Nov-2008; PackageReference: MK06A; PackageDescription: Molded TSOT, 2.97 x 1.65 x 0.87mm Body, 6 Lead, 0.95mm Pitch; RoHS: Y; PinCount: 6; Code_JEDEC: MO-193-AA; Code_IPC: SOT26A-6; ComponentLink1Description: Manufacturer URL; ComponentLink1URL: http://www.national.com/; ComponentLink2Description: LMP8640 Datasheet; ComponentLink2URL: http://www.national.com/ds/LM/LMP8640.pdf; ComponentLink3Description: LMP8640 Web Page; ComponentLink3URL: http://www.national.com/pf/LM/LMP8640.html; ComponentLink4Description: MK06A Package Page; ComponentLink4URL: http://www.national.com/packaging/folders/mk06a.html
footprint MK06A_N (SOT23, 6-Leads, Body 3.0x1.7mm, Pitch 0.95mm, Lead Span 2.9mm, IPC Medium Density)
footprint MK06A_L (SOT23, 6-Leads, Body 3.0x1.7mm, Pitch 0.95mm, Lead Span 2.9mm, IPC High Density)
footprint MK06A_M (SOT23, 6-Leads, Body 3.0x1.7mm, Pitch 0.95mm, Lead Span 2.9mm, IPC Low Density)
pins: 1 VOUT (out), 2 V- (power), 3 +IN (in), 4 -IN (in), 5 NC, 6 V+ (power)

## LMP8640MK-F/NOPB
designator U?
Precision High Voltage Current Sense Amplifier, 6 pin TSOT; PartNumber: LMP8640MK-F/NOPB; Manufacturer: National Semiconductor; PackageTopMarking: AC6A*XTT; PowerWise: N; CompType: Amplifiers; High-Reliability: Y; DatasheetVersion: Sep-2010; PackageVersion: revE, Nov-2008; PackageReference: MK06A; PackageDescription: Molded TSOT, 2.97 x 1.65 x 0.87mm Body, 6 Lead, 0.95mm Pitch; RoHS: Y; PinCount: 6; Code_JEDEC: MO-193-AA; Code_IPC: SOT26A-6; ComponentLink1Description: Manufacturer URL; ComponentLink1URL: http://www.national.com/; ComponentLink2Description: LMP8640 Datasheet; ComponentLink2URL: http://www.national.com/ds/LM/LMP8640.pdf; ComponentLink3Description: LMP8640 Web Page; ComponentLink3URL: http://www.national.com/pf/LM/LMP8640.html; ComponentLink4Description: MK06A Package Page; ComponentLink4URL: http://www.national.com/packaging/folders/mk06a.html
footprint MK06A_N (SOT23, 6-Leads, Body 3.0x1.7mm, Pitch 0.95mm, Lead Span 2.9mm, IPC Medium Density)
footprint MK06A_L (SOT23, 6-Leads, Body 3.0x1.7mm, Pitch 0.95mm, Lead Span 2.9mm, IPC High Density)
footprint MK06A_M (SOT23, 6-Leads, Body 3.0x1.7mm, Pitch 0.95mm, Lead Span 2.9mm, IPC Low Density)
pins: 1 VOUT (out), 2 V- (power), 3 +IN (in), 4 -IN (in), 5 NC, 6 V+ (power)

## LMP8640MK-H/NOPB
designator U?
Precision High Voltage Current Sense Amplifier, 6 pin TSOT; PartNumber: LMP8640MK-H/NOPB; Manufacturer: National Semiconductor; PackageTopMarking: AE6A*XTT; PowerWise: N; CompType: Amplifiers; High-Reliability: Y; DatasheetVersion: Sep-2010; PackageVersion: revE, Nov-2008; PackageReference: MK06A; PackageDescription: Molded TSOT, 2.97 x 1.65 x 0.87mm Body, 6 Lead, 0.95mm Pitch; RoHS: Y; PinCount: 6; Code_JEDEC: MO-193-AA; Code_IPC: SOT26A-6; ComponentLink1Description: Manufacturer URL; ComponentLink1URL: http://www.national.com/; ComponentLink2Description: LMP8640 Datasheet; ComponentLink2URL: http://www.national.com/ds/LM/LMP8640.pdf; ComponentLink3Description: LMP8640 Web Page; ComponentLink3URL: http://www.national.com/pf/LM/LMP8640.html; ComponentLink4Description: MK06A Package Page; ComponentLink4URL: http://www.national.com/packaging/folders/mk06a.html
footprint MK06A_N (SOT23, 6-Leads, Body 3.0x1.7mm, Pitch 0.95mm, Lead Span 2.9mm, IPC Medium Density)
footprint MK06A_L (SOT23, 6-Leads, Body 3.0x1.7mm, Pitch 0.95mm, Lead Span 2.9mm, IPC High Density)
footprint MK06A_M (SOT23, 6-Leads, Body 3.0x1.7mm, Pitch 0.95mm, Lead Span 2.9mm, IPC Low Density)
pins: 1 VOUT (out), 2 V- (power), 3 +IN (in), 4 -IN (in), 5 NC, 6 V+ (power)

## LMP8640MK-T/NOPB
designator U?
Precision High Voltage Current Sense Amplifier, 6 pin TSOT; PartNumber: LMP8640MK-T/NOPB; Manufacturer: National Semiconductor; PackageTopMarking: AA6A*XTT; PowerWise: N; CompType: Amplifiers; High-Reliability: Y; DatasheetVersion: Sep-2010; PackageVersion: revE, Nov-2008; PackageReference: MK06A; PackageDescription: Molded TSOT, 2.97 x 1.65 x 0.87mm Body, 6 Lead, 0.95mm Pitch; RoHS: Y; PinCount: 6; Code_JEDEC: MO-193-AA; Code_IPC: SOT26A-6; ComponentLink1Description: Manufacturer URL; ComponentLink1URL: http://www.national.com/; ComponentLink2Description: LMP8640 Datasheet; ComponentLink2URL: http://www.national.com/ds/LM/LMP8640.pdf; ComponentLink3Description: LMP8640 Web Page; ComponentLink3URL: http://www.national.com/pf/LM/LMP8640.html; ComponentLink4Description: MK06A Package Page; ComponentLink4URL: http://www.national.com/packaging/folders/mk06a.html
footprint MK06A_N (SOT23, 6-Leads, Body 3.0x1.7mm, Pitch 0.95mm, Lead Span 2.9mm, IPC Medium Density)
footprint MK06A_L (SOT23, 6-Leads, Body 3.0x1.7mm, Pitch 0.95mm, Lead Span 2.9mm, IPC High Density)
footprint MK06A_M (SOT23, 6-Leads, Body 3.0x1.7mm, Pitch 0.95mm, Lead Span 2.9mm, IPC Low Density)
pins: 1 VOUT (out), 2 V- (power), 3 +IN (in), 4 -IN (in), 5 NC, 6 V+ (power)

## LMP8640MKE-F/NOPB
designator U?
Precision High Voltage Current Sense Amplifier, 6 pin TSOT; PartNumber: LMP8640MKE-F/NOPB; Manufacturer: National Semiconductor; PackageTopMarking: AC6A*XTT; PowerWise: N; CompType: Amplifiers; High-Reliability: Y; DatasheetVersion: Sep-2010; PackageVersion: revE, Nov-2008; PackageReference: MK06A; PackageDescription: Molded TSOT, 2.97 x 1.65 x 0.87mm Body, 6 Lead, 0.95mm Pitch; RoHS: Y; PinCount: 6; Code_JEDEC: MO-193-AA; Code_IPC: SOT26A-6; ComponentLink1Description: Manufacturer URL; ComponentLink1URL: http://www.national.com/; ComponentLink2Description: LMP8640 Datasheet; ComponentLink2URL: http://www.national.com/ds/LM/LMP8640.pdf; ComponentLink3Description: LMP8640 Web Page; ComponentLink3URL: http://www.national.com/pf/LM/LMP8640.html; ComponentLink4Description: MK06A Package Page; ComponentLink4URL: http://www.national.com/packaging/folders/mk06a.html
footprint MK06A_N (SOT23, 6-Leads, Body 3.0x1.7mm, Pitch 0.95mm, Lead Span 2.9mm, IPC Medium Density)
footprint MK06A_L (SOT23, 6-Leads, Body 3.0x1.7mm, Pitch 0.95mm, Lead Span 2.9mm, IPC High Density)
footprint MK06A_M (SOT23, 6-Leads, Body 3.0x1.7mm, Pitch 0.95mm, Lead Span 2.9mm, IPC Low Density)
pins: 1 VOUT (out), 2 V- (power), 3 +IN (in), 4 -IN (in), 5 NC, 6 V+ (power)

## LMP8640MKE-H/NOPB
designator U?
Precision High Voltage Current Sense Amplifier, 6 pin TSOT; PartNumber: LMP8640MKE-H/NOPB; Manufacturer: National Semiconductor; PackageTopMarking: AE6A*XTT; PowerWise: N; CompType: Amplifiers; High-Reliability: Y; DatasheetVersion: Sep-2010; PackageVersion: revE, Nov-2008; PackageReference: MK06A; PackageDescription: Molded TSOT, 2.97 x 1.65 x 0.87mm Body, 6 Lead, 0.95mm Pitch; RoHS: Y; PinCount: 6; Code_JEDEC: MO-193-AA; Code_IPC: SOT26A-6; ComponentLink1Description: Manufacturer URL; ComponentLink1URL: http://www.national.com/; ComponentLink2Description: LMP8640 Datasheet; ComponentLink2URL: http://www.national.com/ds/LM/LMP8640.pdf; ComponentLink3Description: LMP8640 Web Page; ComponentLink3URL: http://www.national.com/pf/LM/LMP8640.html; ComponentLink4Description: MK06A Package Page; ComponentLink4URL: http://www.national.com/packaging/folders/mk06a.html
footprint MK06A_N (SOT23, 6-Leads, Body 3.0x1.7mm, Pitch 0.95mm, Lead Span 2.9mm, IPC Medium Density)
footprint MK06A_L (SOT23, 6-Leads, Body 3.0x1.7mm, Pitch 0.95mm, Lead Span 2.9mm, IPC High Density)
footprint MK06A_M (SOT23, 6-Leads, Body 3.0x1.7mm, Pitch 0.95mm, Lead Span 2.9mm, IPC Low Density)
pins: 1 VOUT (out), 2 V- (power), 3 +IN (in), 4 -IN (in), 5 NC, 6 V+ (power)

## LMP8640MKE-T/NOPB
designator U?
Precision High Voltage Current Sense Amplifier, 6 pin TSOT; PartNumber: LMP8640MKE-T/NOPB; Manufacturer: National Semiconductor; PackageTopMarking: AA6A*XTT; PowerWise: N; CompType: Amplifiers; High-Reliability: Y; DatasheetVersion: Sep-2010; PackageVersion: revE, Nov-2008; PackageReference: MK06A; PackageDescription: Molded TSOT, 2.97 x 1.65 x 0.87mm Body, 6 Lead, 0.95mm Pitch; RoHS: Y; PinCount: 6; Code_JEDEC: MO-193-AA; Code_IPC: SOT26A-6; ComponentLink1Description: Manufacturer URL; ComponentLink1URL: http://www.national.com/; ComponentLink2Description: LMP8640 Datasheet; ComponentLink2URL: http://www.national.com/ds/LM/LMP8640.pdf; ComponentLink3Description: LMP8640 Web Page; ComponentLink3URL: http://www.national.com/pf/LM/LMP8640.html; ComponentLink4Description: MK06A Package Page; ComponentLink4URL: http://www.national.com/packaging/folders/mk06a.html
footprint MK06A_N (SOT23, 6-Leads, Body 3.0x1.7mm, Pitch 0.95mm, Lead Span 2.9mm, IPC Medium Density)
footprint MK06A_L (SOT23, 6-Leads, Body 3.0x1.7mm, Pitch 0.95mm, Lead Span 2.9mm, IPC High Density)
footprint MK06A_M (SOT23, 6-Leads, Body 3.0x1.7mm, Pitch 0.95mm, Lead Span 2.9mm, IPC Low Density)
pins: 1 VOUT (out), 2 V- (power), 3 +IN (in), 4 -IN (in), 5 NC, 6 V+ (power)

## LMP8640MKX-F/NOPB
designator U?
Precision High Voltage Current Sense Amplifier, 6 pin TSOT; PartNumber: LMP8640MKX-F/NOPB; Manufacturer: National Semiconductor; PackageTopMarking: AC6A*XTT; PowerWise: N; CompType: Amplifiers; High-Reliability: Y; DatasheetVersion: Sep-2010; PackageVersion: revE, Nov-2008; PackageReference: MK06A; PackageDescription: Molded TSOT, 2.97 x 1.65 x 0.87mm Body, 6 Lead, 0.95mm Pitch; RoHS: Y; PinCount: 6; Code_JEDEC: MO-193-AA; Code_IPC: SOT26A-6; ComponentLink1Description: Manufacturer URL; ComponentLink1URL: http://www.national.com/; ComponentLink2Description: LMP8640 Datasheet; ComponentLink2URL: http://www.national.com/ds/LM/LMP8640.pdf; ComponentLink3Description: LMP8640 Web Page; ComponentLink3URL: http://www.national.com/pf/LM/LMP8640.html; ComponentLink4Description: MK06A Package Page; ComponentLink4URL: http://www.national.com/packaging/folders/mk06a.html
footprint MK06A_N (SOT23, 6-Leads, Body 3.0x1.7mm, Pitch 0.95mm, Lead Span 2.9mm, IPC Medium Density)
footprint MK06A_L (SOT23, 6-Leads, Body 3.0x1.7mm, Pitch 0.95mm, Lead Span 2.9mm, IPC High Density)
footprint MK06A_M (SOT23, 6-Leads, Body 3.0x1.7mm, Pitch 0.95mm, Lead Span 2.9mm, IPC Low Density)
pins: 1 VOUT (out), 2 V- (power), 3 +IN (in), 4 -IN (in), 5 NC, 6 V+ (power)

## LMP8640MKX-H/NOPB
designator U?
Precision High Voltage Current Sense Amplifier, 6 pin TSOT; PartNumber: LMP8640MKX-H/NOPB; Manufacturer: National Semiconductor; PackageTopMarking: AE6A*XTT; PowerWise: N; CompType: Amplifiers; High-Reliability: Y; DatasheetVersion: Sep-2010; PackageVersion: revE, Nov-2008; PackageReference: MK06A; PackageDescription: Molded TSOT, 2.97 x 1.65 x 0.87mm Body, 6 Lead, 0.95mm Pitch; RoHS: Y; PinCount: 6; Code_JEDEC: MO-193-AA; Code_IPC: SOT26A-6; ComponentLink1Description: Manufacturer URL; ComponentLink1URL: http://www.national.com/; ComponentLink2Description: LMP8640 Datasheet; ComponentLink2URL: http://www.national.com/ds/LM/LMP8640.pdf; ComponentLink3Description: LMP8640 Web Page; ComponentLink3URL: http://www.national.com/pf/LM/LMP8640.html; ComponentLink4Description: MK06A Package Page; ComponentLink4URL: http://www.national.com/packaging/folders/mk06a.html
footprint MK06A_N (SOT23, 6-Leads, Body 3.0x1.7mm, Pitch 0.95mm, Lead Span 2.9mm, IPC Medium Density)
footprint MK06A_L (SOT23, 6-Leads, Body 3.0x1.7mm, Pitch 0.95mm, Lead Span 2.9mm, IPC High Density)
footprint MK06A_M (SOT23, 6-Leads, Body 3.0x1.7mm, Pitch 0.95mm, Lead Span 2.9mm, IPC Low Density)
pins: 1 VOUT (out), 2 V- (power), 3 +IN (in), 4 -IN (in), 5 NC, 6 V+ (power)

## LMP8640MKX-T/NOPB
designator U?
Precision High Voltage Current Sense Amplifier, 6 pin TSOT; PartNumber: LMP8640MKX-T/NOPB; Manufacturer: National Semiconductor; PackageTopMarking: AA6A*XTT; PowerWise: N; CompType: Amplifiers; High-Reliability: Y; DatasheetVersion: Sep-2010; PackageVersion: revE, Nov-2008; PackageReference: MK06A; PackageDescription: Molded TSOT, 2.97 x 1.65 x 0.87mm Body, 6 Lead, 0.95mm Pitch; RoHS: Y; PinCount: 6; Code_JEDEC: MO-193-AA; Code_IPC: SOT26A-6; ComponentLink1Description: Manufacturer URL; ComponentLink1URL: http://www.national.com/; ComponentLink2Description: LMP8640 Datasheet; ComponentLink2URL: http://www.national.com/ds/LM/LMP8640.pdf; ComponentLink3Description: LMP8640 Web Page; ComponentLink3URL: http://www.national.com/pf/LM/LMP8640.html; ComponentLink4Description: MK06A Package Page; ComponentLink4URL: http://www.national.com/packaging/folders/mk06a.html
footprint MK06A_N (SOT23, 6-Leads, Body 3.0x1.7mm, Pitch 0.95mm, Lead Span 2.9mm, IPC Medium Density)
footprint MK06A_L (SOT23, 6-Leads, Body 3.0x1.7mm, Pitch 0.95mm, Lead Span 2.9mm, IPC High Density)
footprint MK06A_M (SOT23, 6-Leads, Body 3.0x1.7mm, Pitch 0.95mm, Lead Span 2.9mm, IPC Low Density)
pins: 1 VOUT (out), 2 V- (power), 3 +IN (in), 4 -IN (in), 5 NC, 6 V+ (power)

## LMP8645HVMK/NOPB
designator U?
Precision High Voltage Current Sense Amplifier, 6-pin Tiny SOT23, Pb-Free, 1000 Reel; PartNumber: LMP8645HVMK/NOPB; Manufacturer: National Semiconductor; PackageTopMarking: AK6A*XTT; PowerWise: N; CompType: Amplifiers; High-Reliability: Y; DatasheetVersion: Jan-2011; PackageVersion: revE, Nov-2008; PackageReference: MK06A; PackageDescription: Molded TSOT, 2.97 x 1.65 x 0.87mm Body, 6 Lead, 0.95mm Pitch; RoHS: Y; PinCount: 6; Code_JEDEC: MO-193-AA; Code_IPC: SOT26A-6; ComponentLink1Description: Manufacturer URL; ComponentLink1URL: http://www.national.com/; ComponentLink2Description: LMP8645HV Datasheet; ComponentLink2URL: http://www.national.com/ds/LM/LMP8645HV.pdf; ComponentLink3Description: LMP8645HV Web Page; ComponentLink3URL: http://www.national.com/pf/LM/LMP8645HV.html; ComponentLink4Description: MK06A Package Page; ComponentLink4URL: http://www.national.com/packaging/folders/mk06a.html
footprint MK06A_N (SOT23, 6-Leads, Body 3.0x1.7mm, Pitch 0.95mm, Lead Span 2.9mm, IPC Medium Density)
footprint MK06A_L (SOT23, 6-Leads, Body 3.0x1.7mm, Pitch 0.95mm, Lead Span 2.9mm, IPC High Density)
footprint MK06A_M (SOT23, 6-Leads, Body 3.0x1.7mm, Pitch 0.95mm, Lead Span 2.9mm, IPC Low Density)
pins: 1 OUT (out), 2 V- (power), 3 IN+ (in), 4 IN- (in), 5 RG, 6 V+ (power)

## LMP8645HVMKE/NOPB
designator U?
Precision High Voltage Current Sense Amplifier, 6-pin Tiny SOT23, Pb-Free, 250 Reel; PartNumber: LMP8645HVMKE/NOPB; Manufacturer: National Semiconductor; PackageTopMarking: AK6A*XTT; PowerWise: N; CompType: Amplifiers; High-Reliability: Y; DatasheetVersion: Jan-2011; PackageVersion: revE, Nov-2008; PackageReference: MK06A; PackageDescription: Molded TSOT, 2.97 x 1.65 x 0.87mm Body, 6 Lead, 0.95mm Pitch; RoHS: Y; PinCount: 6; Code_JEDEC: MO-193-AA; Code_IPC: SOT26A-6; ComponentLink1Description: Manufacturer URL; ComponentLink1URL: http://www.national.com/; ComponentLink2Description: LMP8645HV Datasheet; ComponentLink2URL: http://www.national.com/ds/LM/LMP8645HV.pdf; ComponentLink3Description: LMP8645HV Web Page; ComponentLink3URL: http://www.national.com/pf/LM/LMP8645HV.html; ComponentLink4Description: MK06A Package Page; ComponentLink4URL: http://www.national.com/packaging/folders/mk06a.html
footprint MK06A_N (SOT23, 6-Leads, Body 3.0x1.7mm, Pitch 0.95mm, Lead Span 2.9mm, IPC Medium Density)
footprint MK06A_L (SOT23, 6-Leads, Body 3.0x1.7mm, Pitch 0.95mm, Lead Span 2.9mm, IPC High Density)
footprint MK06A_M (SOT23, 6-Leads, Body 3.0x1.7mm, Pitch 0.95mm, Lead Span 2.9mm, IPC Low Density)
pins: 1 OUT (out), 2 V- (power), 3 IN+ (in), 4 IN- (in), 5 RG, 6 V+ (power)

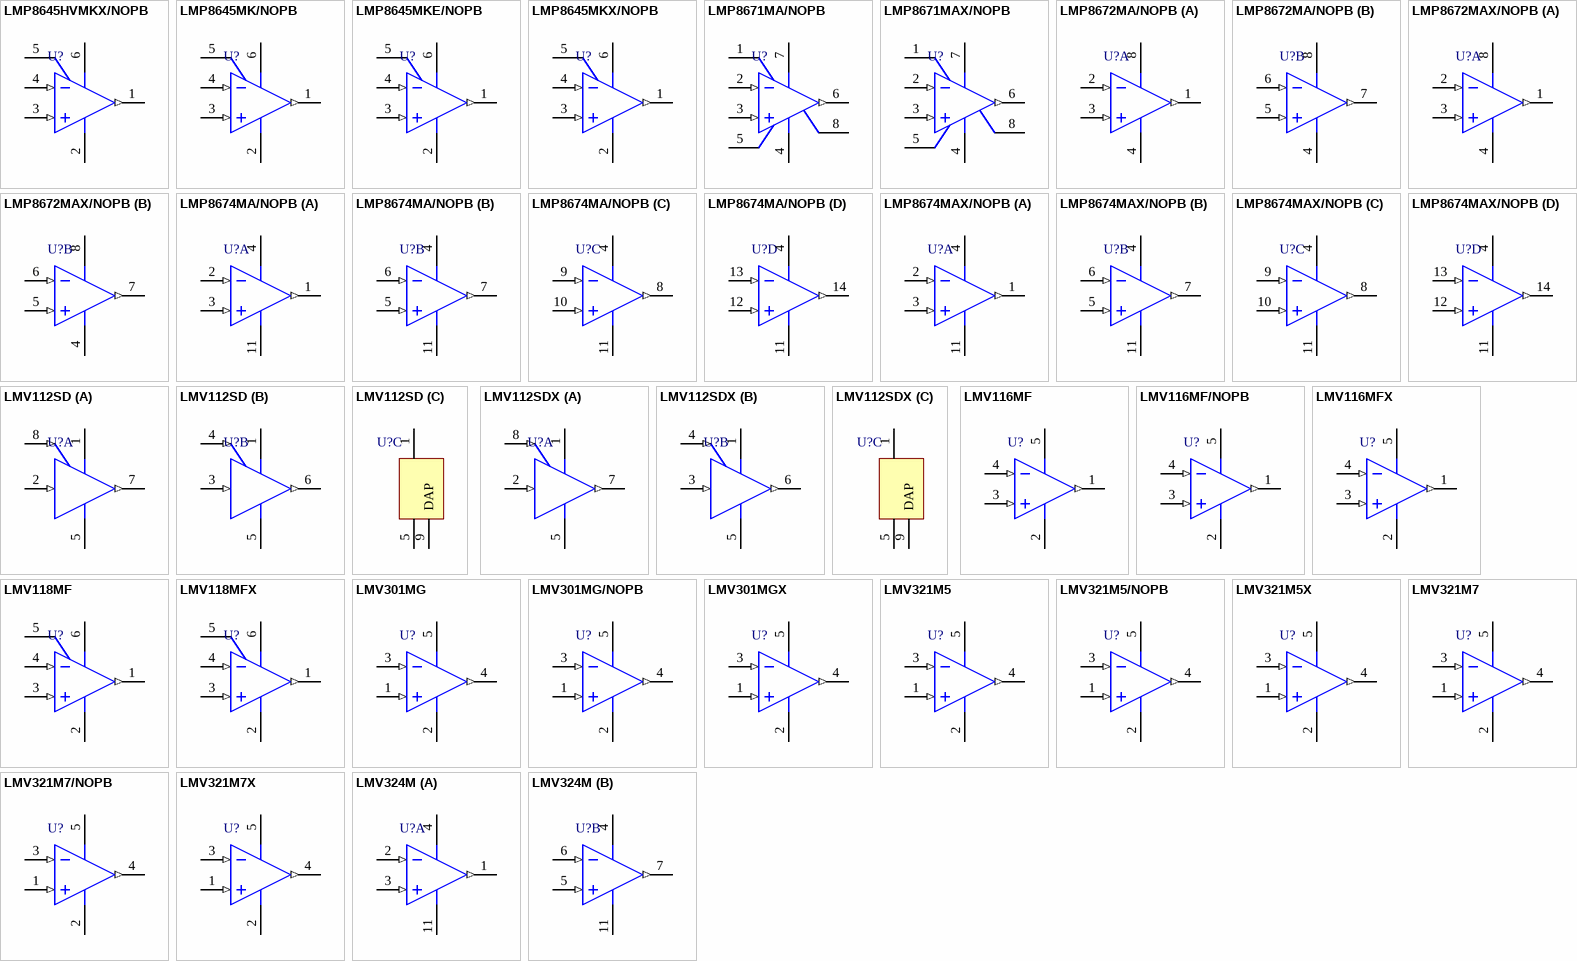
[diagram p65: symbols LMP8645HVMKX/NOPB to LMV324M]